# Altium integrated library Atmel Microcontroller 32-Bit ARM.IntLib: 116 symbols (part 9 of 10)
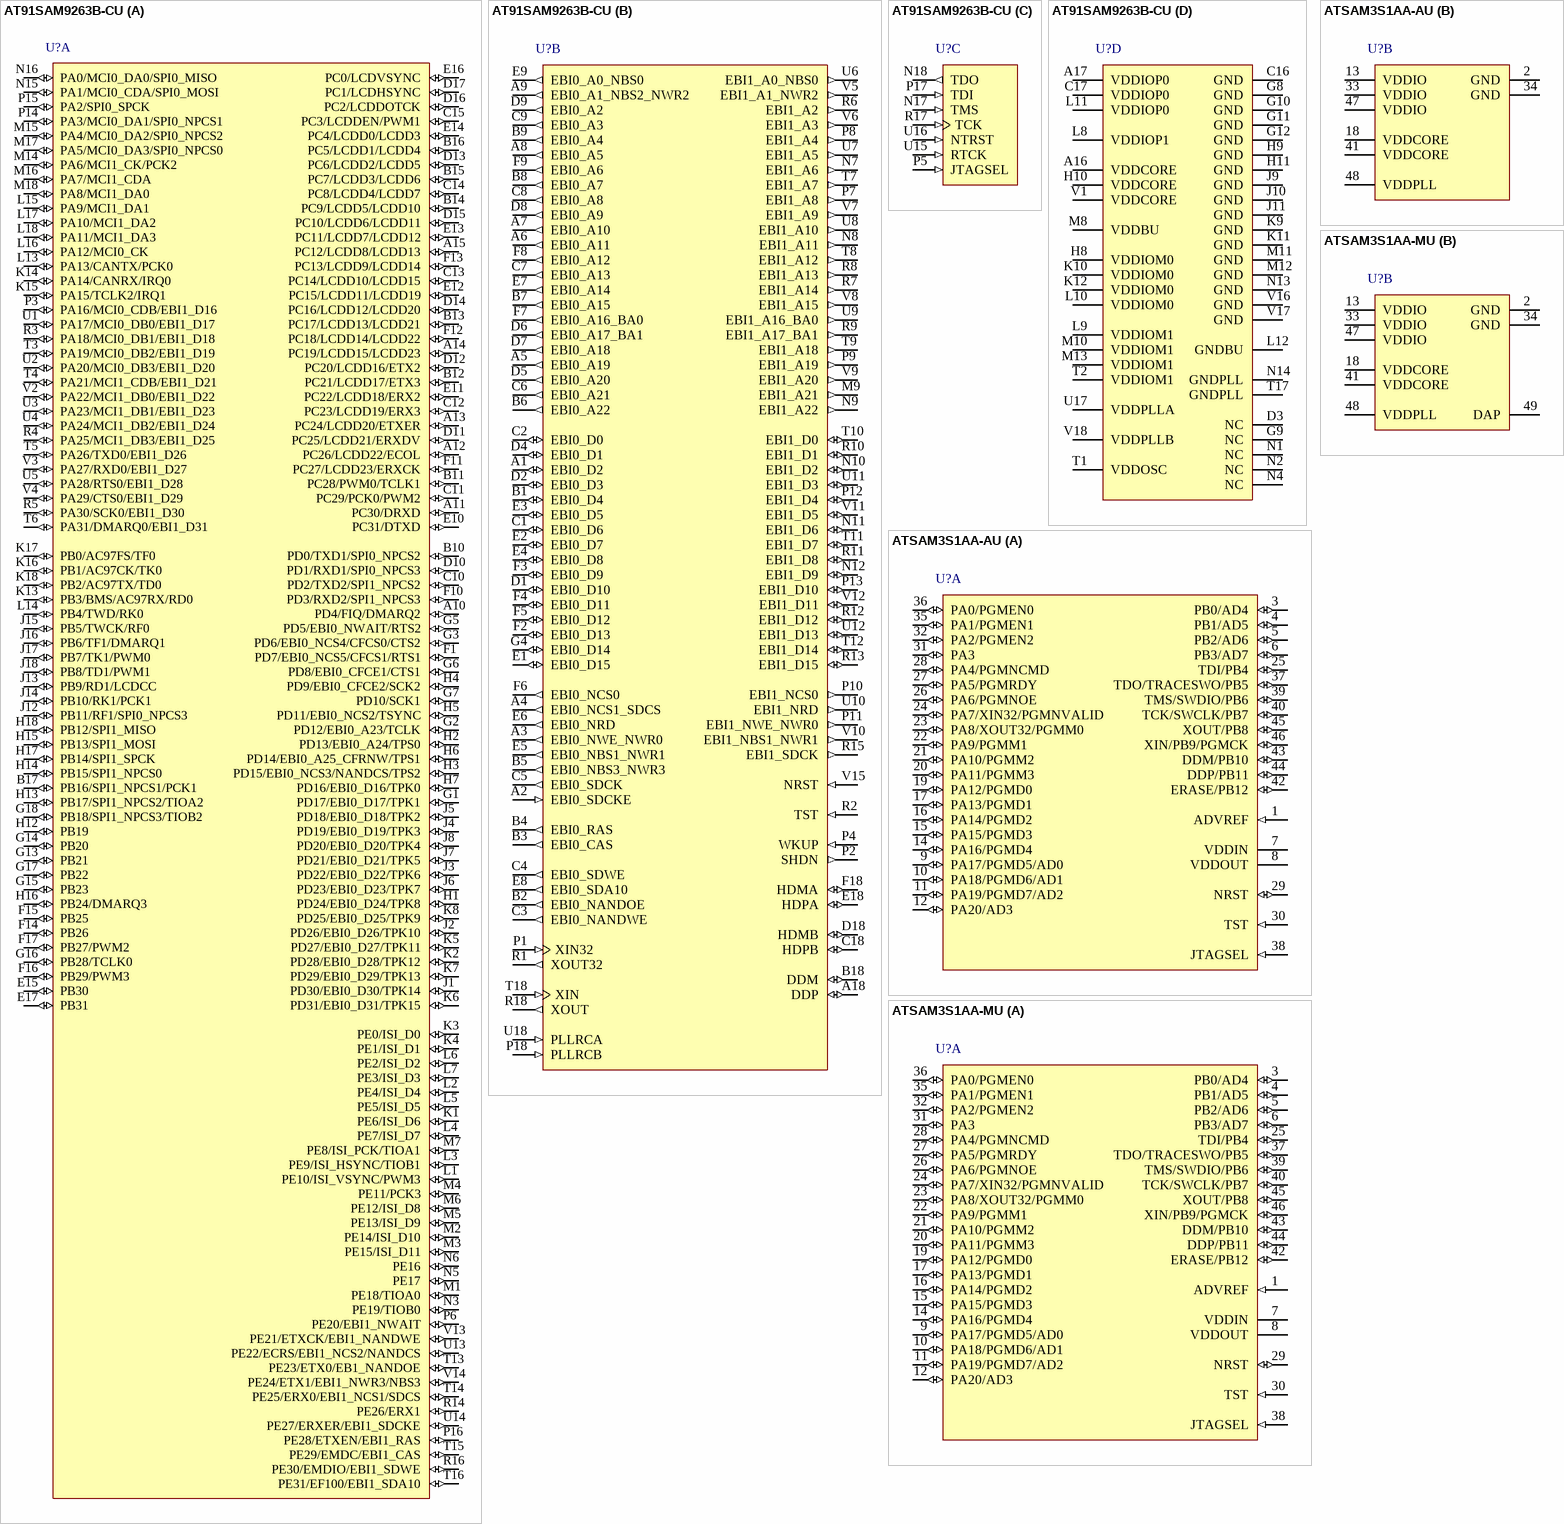
[diagram p60: symbols AT91SAM9263B-CU to ATSAM3S1AA-MU]

## AT91SAM9263B-CU
designator U?
AT91 ARM Thumb 32-bit Microcontroller, 96KB SRAM, 2EBI, FS USB, 20-ch. PDC, LCD Controller, 324-Pin TFBGA, Industrial Grade (-40°C to 85°C), Pb-Free; Published: 20-Sep-2010; DatasheetVersion: revH, Jul-2009; PackageVersion: 2009; PackageReference: TFBGA324; Publisher: Altium Limited; PackageDescription: 324-Ball Low Profile Fine-Pitch BGA, 15 x 15 mm Body, 0.8 mm Pitch; Supplier 1: Digi-Key; Supplier Part Number 1: AT91SAM9263B-CU-ND; Supplier 2: Farnell; Supplier Part Number 2: 1715468; Supplier 3: Mouser; Supplier Part Number 3: 556-AT91SAM9263B-CU; Code_JEDEC: MO-210; ComponentLink1Description: Manufacturer Link; ComponentLink1URL: http://www.atmel.com/products/AT91/default.asp?; ComponentLink2Description: AT91SAM9263 Datasheet; ComponentLink2URL: http://www.atmel.com/dyn/resources/prod_documents/doc6249.pdf; ComponentLink3Description: AT91SAM9263 Summary; ComponentLink3URL: http://www.atmel.com/dyn/resources/prod_documents/6249s.pdf; ComponentLink4Description: ARM926EJ-S Reference Manual; ComponentLink4URL: http://www.atmel.com/dyn/resources/prod_documents/ARM_926EJS_TRM.pdf; ComponentLink5Description: Atmel.com Home; ComponentLink5URL: http://www.atmel.com
footprint TFBGA324 (BGA, 324-Leads, Body 15x15mm, Pitch 0.8mm)
part A pins: A10 PD4/FIQ/DMARQ2 (io), A11 PC30/DRXD (io), A12 PC26/LCDD22/ECOL (io), A13 PC24/LCDD20/ETXER (io), A14 PC19/LCDD15/LCDD23 (io), A15 PC12/LCDD8/LCDD13 (io), B10 PD0/TXD1/SPI0_NPCS2 (io), B11 PC28/PWM0/TCLK1 (io), B12 PC21/LCDD17/ETX3 (io), B13 PC17/LCDD13/LCDD21 (io), B14 PC9/LCDD5/LCDD10 (io), B15 PC7/LCDD3/LCDD6 (io), B16 PC5/LCDD1/LCDD4 (io), B17 PB16/SPI1_NPCS1/PCK1 (io), C10 PD2/TXD2/SPI1_NPCS2 (io), C11 PC29/PCK0/PWM2 (io), C12 PC23/LCDD19/ERX3 (io), C13 PC14/LCDD10/LCDD15 (io), C14 PC8/LCDD4/LCDD7 (io), C15 PC3/LCDDEN/PWM1 (io), D10 PD1/RXD1/SPI0_NPCS3 (io), D11 PC25/LCDD21/ERXDV (io), D12 PC20/LCDD16/ETX2 (io), D13 PC6/LCDD2/LCDD5 (io), D14 PC16/LCDD12/LCDD20 (io), D15 PC10/LCDD6/LCDD11 (io), D16 PC2/LCDDOTCK (io), D17 PC1/LCDHSYNC (io), E10 PC31/DTXD (io), E11 PC22/LCDD18/ERX2 (io), E12 PC15/LCDD11/LCDD19 (io), E13 PC11/LCDD7/LCDD12 (io), E14 PC4/LCDD0/LCDD3 (io), E15 PB30 (io), E16 PC0/LCDVSYNC (io), E17 PB31 (io), F1 PD7/EBI0_NCS5/CFCS1/RTS1 (io), F10 PD3/RXD2/SPI1_NPCS3 (io), F11 PC27/LCDD23/ERXCK (io), F12 PC18/LCDD14/LCDD22 (io), F13 PC13/LCDD9/LCDD14 (io), F14 PB26 (io), F15 PB25 (io), F16 PB29/PWM3 (io), F17 PB27/PWM2 (io), G1 PD17/EBI0_D17/TPK1 (io), G2 PD12/EBI0_A23/TCLK (io), G3 PD6/EBI0_NCS4/CFCS0/CTS2 (io), G5 PD5/EBI0_NWAIT/RTS2 (io), G6 PD8/EBI0_CFCE1/CTS1 (io), G7 PD10/SCK1 (io), G13 PB21 (io), G14 PB20 (io), G15 PB23 (io), G16 PB28/TCLK0 (io), G17 PB22 (io), G18 PB18/SPI1_NPCS3/TIOB2 (io), H1 PD24/EBI0_D24/TPK8 (io), H2 PD13/EBI0_A24/TPS0 (io), H3 PD15/EBI0_NCS3/NANDCS/TPS2 (io), H4 PD9/EBI0_CFCE2/SCK2 (io), H5 PD11/EBI0_NCS2/TSYNC (io), H6 PD14/EBI0_A25_CFRNW/TPS1 (io), H7 PD16/EBI0_D16/TPK0 (io), H12 PB19 (io), H13 PB17/SPI1_NPCS2/TIOA2 (io), H14 PB15/SPI1_NPCS0 (io), H15 PB13/SPI1_MOSI (io), H16 PB24/DMARQ3 (io), H17 PB14/SPI1_SPCK (io), H18 PB12/SPI1_MISO (io), J1 PD30/EBI0_D30/TPK14 (io), J2 PD26/EBI0_D26/TPK10 (io), J3 PD22/EBI0_D22/TPK6 (io), J4 PD19/EBI0_D19/TPK3 (io), J5 PD18/EBI0_D18/TPK2 (io), J6 PD23/EBI0_D23/TPK7 (io), J7 PD21/EBI0_D21/TPK5 (io), J8 PD20/EBI0_D20/TPK4 (io), J12 PB11/RF1/SPI0_NPCS3 (io), J13 PB9/RD1/LCDCC (io), J14 PB10/RK1/PCK1 (io), J15 PB5/TWCK/RF0 (io), J16 PB6/TF1/DMARQ1 (io), J17 PB7/TK1/PWM0 (io), J18 PB8/TD1/PWM1 (io), K1 PE6/ISI_D6 (io), K2 PD28/EBI0_D28/TPK12 (io), K3 PE0/ISI_D0 (io), K4 PE1/ISI_D1 (io), K5 PD27/EBI0_D27/TPK11 (io), K6 PD31/EBI0_D31/TPK15 (io), K7 PD29/EBI0_D29/TPK13 (io), K8 PD25/EBI0_D25/TPK9 (io), K13 PB3/BMS/AC97RX/RD0 (io), K14 PA14/CANRX/IRQ0 (io), K15 PA15/TCLK2/IRQ1 (io), K16 PB1/AC97CK/TK0 (io), K17 PB0/AC97FS/TF0 (io), K18 PB2/AC97TX/TD0 (io), L1 PE10/ISI_VSYNC/PWM3 (io), L2 PE4/ISI_D4 (io), L3 PE9/ISI_HSYNC/TIOB1 (io), L4 PE7/ISI_D7 (io), L5 PE5/ISI_D5 (io), L6 PE2/ISI_D2 (io), L7 PE3/ISI_D3 (io), L13 PA13/CANTX/PCK0 (io), L14 PB4/TWD/RK0 (io), L15 PA9/MCI1_DA1 (io), L16 PA12/MCI0_CK (io), L17 PA10/MCI1_DA2 (io), L18 PA11/MCI1_DA3 (io), M1 PE18/TIOA0 (io), M2 PE14/ISI_D10 (io), M3 PE15/ISI_D11 (io), M4 PE11/PCK3 (io), M5 PE13/ISI_D9 (io), M6 PE12/ISI_D8 (io), M7 PE8/ISI_PCK/TIOA1 (io), M14 PA6/MCI1_CK/PCK2 (io), M15 PA4/MCI0_DA2/SPI0_NPCS2 (io), M16 PA7/MCI1_CDA (io), M17 PA5/MCI0_DA3/SPI0_NPCS0 (io), M18 PA8/MCI1_DA0 (io), N3 PE19/TIOB0 (io), N5 PE17 (io), N6 PE16 (io), N15 PA1/MCI0_CDA/SPI0_MOSI (io), N16 PA0/MCI0_DA0/SPI0_MISO (io), P3 PA16/MCI0_CDB/EBI1_D16 (io), P6 PE20/EBI1_NWAIT (io), P14 PA3/MCI0_DA1/SPI0_NPCS1 (io), P15 PA2/SPI0_SPCK (io), P16 PE28/ETXEN/EBI1_RAS (io), R3 PA18/MCI0_DB1/EBI1_D18 (io), R4 PA25/MCI1_DB3/EBI1_D25 (io), R5 PA30/SCK0/EBI1_D30 (io), R14 PE26/ERX1 (io), R16 PE30/EMDIO/EBI1_SDWE (io), T3 PA19/MCI0_DB2/EBI1_D19 (io), T4 PA21/MCI1_CDB/EBI1_D21 (io), T5 PA26/TXD0/EBI1_D26 (io), T6 PA31/DMARQ0/EBI1_D31 (io), T13 PE23/ETX0/EB1_NANDOE (io), T14 PE25/ERX0/EBI1_NCS1/SDCS (io), T15 PE29/EMDC/EBI1_CAS (io), T16 PE31/EF100/EBI1_SDA10 (io), U1 PA17/MCI0_DB0/EBI1_D17 (io), U2 PA20/MCI0_DB3/EBI1_D20 (io), U3 PA23/MCI1_DB1/EBI1_D23 (io), U4 PA24/MCI1_DB2/EBI1_D24 (io), U5 PA28/RTS0/EBI1_D28 (io), U13 PE22/ECRS/EBI1_NCS2/NANDCS (io), U14 PE27/ERXER/EBI1_SDCKE (io), V2 PA22/MCI1_DB0/EBI1_D22 (io), V3 PA27/RXD0/EBI1_D27 (io), V4 PA29/CTS0/EBI1_D29 (io), V13 PE21/ETXCK/EBI1_NANDWE (io), V14 PE24/ETX1/EBI1_NWR3/NBS3 (io)
part B pins: A1 EBI0_D2 (io), A2 EBI0_SDCKE (in), A3 EBI0_NWE_NWR0 (out), A4 EBI0_NCS1_SDCS (out), A5 EBI0_A19 (out), A6 EBI0_A11 (out), A7 EBI0_A10 (out), A8 EBI0_A5 (out), A9 EBI0_A1_NBS2_NWR2 (out), A18 DDP (io), B1 EBI0_D4 (io), B2 EBI0_NANDOE (out), B3 EBI0_CAS (out), B4 EBI0_RAS (out), B5 EBI0_NBS3_NWR3 (out), B6 EBI0_A22 (out), B7 EBI0_A15 (out), B8 EBI0_A7 (out), B9 EBI0_A4 (out), B18 DDM (io), C1 EBI0_D6 (io), C2 EBI0_D0 (io), C3 EBI0_NANDWE (out), C4 EBI0_SDWE (out), C5 EBI0_SDCK (out), C6 EBI0_A21 (out), C7 EBI0_A13 (out), C8 EBI0_A8 (out), C9 EBI0_A3 (out), C18 HDPB (io), D1 EBI0_D10 (io), D2 EBI0_D3 (io), D4 EBI0_D1 (io), D5 EBI0_A20 (out), D6 EBI0_A17_BA1 (out), D7 EBI0_A18 (out), D8 EBI0_A9 (out), D9 EBI0_A2 (out), D18 HDMB (io), E1 EBI0_D15 (io), E2 EBI0_D7 (io), E3 EBI0_D5 (io), E4 EBI0_D8 (io), E5 EBI0_NBS1_NWR1 (out), E6 EBI0_NRD (out), E7 EBI0_A14 (out), E8 EBI0_SDA10 (out), E9 EBI0_A0_NBS0 (out), E18 HDPA (io), F2 EBI0_D13 (io), F3 EBI0_D9 (io), F4 EBI0_D11 (io), F5 EBI0_D12 (io), F6 EBI0_NCS0 (out), F7 EBI0_A16_BA0 (out), F8 EBI0_A12 (out), F9 EBI0_A6 (out), F18 HDMA (io), G4 EBI0_D14 (io), M9 EBI1_A21 (out), N7 EBI1_A6 (out), N8 EBI1_A11 (out), N9 EBI1_A22 (out), N10 EBI1_D2 (io), N11 EBI1_D6 (io), N12 EBI1_D9 (io), P1 XIN32 (in), P2 SHDN (out), P4 WKUP (in), P7 EBI1_A8 (out), P8 EBI1_A4 (out), P9 EBI1_A19 (out), P10 EBI1_NCS0 (out), P11 EBI1_NWE_NWR0 (out), P12 EBI1_D4 (io), P13 EBI1_D10 (io), P18 PLLRCB (in), R1 XOUT32 (out), R2 TST (in), R6 EBI1_A2 (out), R7 EBI1_A14 (out), R8 EBI1_A13 (out), R9 EBI1_A17_BA1 (out), R10 EBI1_D1 (io), R11 EBI1_D8 (io), R12 EBI1_D12 (io), R13 EBI1_D15 (io), R15 EBI1_SDCK (out), R18 XOUT (out), T7 EBI1_A7 (out), T8 EBI1_A12 (out), T9 EBI1_A18 (out), T10 EBI1_D0 (io), T11 EBI1_D7 (io), T12 EBI1_D14 (io), T18 XIN (in), U6 EBI1_A0_NBS0 (out), U7 EBI1_A5 (out), U8 EBI1_A10 (out), U9 EBI1_A16_BA0 (out), U10 EBI1_NRD (out), U11 EBI1_D3 (io), U12 EBI1_D13 (io), U18 PLLRCA (in), V5 EBI1_A1_NWR2 (out), V6 EBI1_A3 (out), V7 EBI1_A9 (out), V8 EBI1_A15 (out), V9 EBI1_A20 (out), V10 EBI1_NBS1_NWR1 (out), V11 EBI1_D5 (io), V12 EBI1_D11 (io), V15 NRST (in)
part C pins: N17 TMS (in), N18 TDO (out), P5 JTAGSEL (in), P17 TDI (in), R17 TCK (in), U15 RTCK (in), U16 NTRST (in)
part D pins: A16 VDDCORE (power), A17 VDDIOP0 (power), C16 GND (power), C17 VDDIOP0 (power), D3 NC, G8 GND (power), G9 NC, G10 GND (power), G11 GND (power), G12 GND (power), H8 VDDIOM0 (power), H9 GND (power), H10 VDDCORE (power), H11 GND (power), J9 GND (power), J10 GND (power), J11 GND (power), K9 GND (power), K10 VDDIOM0 (power), K11 GND (power), K12 VDDIOM0 (power), L8 VDDIOP1 (power), L9 VDDIOM1 (power), L10 VDDIOM0 (power), L11 VDDIOP0 (power), L12 GNDBU (power), M8 VDDBU (power), M10 VDDIOM1 (power), M11 GND (power), M12 GND (power), M13 VDDIOM1 (power), N1 NC, N2 NC, N4 NC, N13 GND (power), N14 GNDPLL (power), T1 VDDOSC (power), T2 VDDIOM1 (power), T17 GNDPLL (power), U17 VDDPLLA (power), V1 VDDCORE (power), V16 GND (power), V17 GND (power), V18 VDDPLLB (power)

## ATSAM3S1AA-AU
designator U?
AT91 ARM Cortex-M3 32-bit Microcontroller, 64KB Flash, 16KB ROM, 8-ch. ADC, 34 User I/Os, 48-Pin LQFP, Industrial Grade (-40°C to 85°C), Pb-Free; Published: 20-Sep-2010; DatasheetVersion: revA, Dec-2009; PackageVersion: revC, Oct-2001; PackageReference: 48AA; Publisher: Altium Limited; PackageDescription: 48-Pin Plastic Low Profile Quad Flat Pack (LQFP), 7 x 7 x 1.4 mm Body, 0.5 mm Pitch; Supplier 1: Digi-Key; Supplier Part Number 1: ATSAM3S1AA-AU-ND; Supplier 2: Mouser; Supplier Part Number 2: 556-ATSAM3S1AA-AU; Code_JEDEC: MS-026-BBC; ComponentLink1Description: Manufacturer Link; ComponentLink1URL: http://www.atmel.com/products/AT91/default.asp?; ComponentLink2Description: SAM3S Series Datasheet; ComponentLink2URL: http://www.atmel.com/dyn/resources/prod_documents/doc6500.pdf; ComponentLink3Description: SAM3S Series Summary; ComponentLink3URL: http://www.atmel.com/dyn/resources/prod_documents/6500s.pdf; ComponentLink4Description: Atmel.com Home; ComponentLink4URL: http://www.atmel.com
footprint 48AA_N (Thin QFP, 48-Leads, Body 7x7mm, Pitch 0.5mm, IPC Medium Density)
footprint 48AA_L (Thin QFP, 48-Leads, Body 7x7mm, Pitch 0.5mm, IPC High Density)
footprint 48AA_M (Thin QFP, 48-Leads, Body 7x7mm, Pitch 0.5mm, IPC Low Density)
part A pins: 1 ADVREF (in), 3 PB0/AD4 (io), 4 PB1/AD5 (io), 5 PB2/AD6 (io), 6 PB3/AD7 (io), 7 VDDIN (power), 8 VDDOUT (power), 9 PA17/PGMD5/AD0 (io), 10 PA18/PGMD6/AD1 (io), 11 PA19/PGMD7/AD2 (io), 12 PA20/AD3 (io), 14 PA16/PGMD4 (io), 15 PA15/PGMD3 (io), 16 PA14/PGMD2 (io), 17 PA13/PGMD1 (io), 19 PA12/PGMD0 (io), 20 PA11/PGMM3 (io), 21 PA10/PGMM2 (io), 22 PA9/PGMM1 (io), 23 PA8/XOUT32/PGMM0 (io), 24 PA7/XIN32/PGMNVALID (io), 25 TDI/PB4 (io), 26 PA6/PGMNOE (io), 27 PA5/PGMRDY (io), 28 PA4/PGMNCMD (io), 29 NRST (io), 30 TST (in), 31 PA3 (io), 32 PA2/PGMEN2 (io), 35 PA1/PGMEN1 (io), 36 PA0/PGMEN0 (io), 37 TDO/TRACESWO/PB5 (io), 38 JTAGSEL (in), 39 TMS/SWDIO/PB6 (io), 40 TCK/SWCLK/PB7 (io), 42 ERASE/PB12 (io), 43 DDM/PB10 (io), 44 DDP/PB11 (io), 45 XOUT/PB8 (io), 46 XIN/PB9/PGMCK (io)
part B pins: 2 GND (power), 13 VDDIO (power), 18 VDDCORE (power), 33 VDDIO (power), 34 GND (power), 41 VDDCORE (power), 47 VDDIO (power), 48 VDDPLL (power)

## ATSAM3S1AA-MU
designator U?
AT91 ARM Cortex-M3 32-bit Microcontroller, 64KB Flash, 16KB ROM, 8-ch. ADC, 34 User I/Os, 48-Pin QFN, Industrial Grade (-40°C to 85°C), Pb-Free; Published: 20-Sep-2010; DatasheetVersion: revA, Dec-2009; PackageVersion: Apr-2006; PackageReference: QFN48; Publisher: Altium Limited; PackageDescription: 48-Pin Quad Flat No-Lead 0.5 mm Pitch; Supplier 1: Digi-Key; Supplier Part Number 1: ATSAM3S1AA-MU-ND; Supplier 2: Mouser; Supplier Part Number 2: 556-ATSAM3S1AA-MU; ComponentLink1Description: Manufacturer Link; ComponentLink1URL: http://www.atmel.com/products/AT91/default.asp?; ComponentLink2Description: SAM3S Series Datasheet; ComponentLink2URL: http://www.atmel.com/dyn/resources/prod_documents/doc6500.pdf; ComponentLink3Description: SAM3S Series Summary; ComponentLink3URL: http://www.atmel.com/dyn/resources/prod_documents/6500s.pdf; ComponentLink4Description: Atmel.com Home; ComponentLink4URL: http://www.atmel.com
footprint QFN48_N (QFN, 48-Leads, Body 7x7mm, Pitch 0.5mm, IPC Medium Density)
footprint QFN48_L (QFN, 48-Leads, Body 7x7mm, Pitch 0.5mm, IPC High Density)
footprint QFN48_M (QFN, 48-Leads, Body 7x7mm, Pitch 0.5mm, IPC Low Density)
part A pins: 1 ADVREF (in), 3 PB0/AD4 (io), 4 PB1/AD5 (io), 5 PB2/AD6 (io), 6 PB3/AD7 (io), 7 VDDIN (power), 8 VDDOUT (power), 9 PA17/PGMD5/AD0 (io), 10 PA18/PGMD6/AD1 (io), 11 PA19/PGMD7/AD2 (io), 12 PA20/AD3 (io), 14 PA16/PGMD4 (io), 15 PA15/PGMD3 (io), 16 PA14/PGMD2 (io), 17 PA13/PGMD1 (io), 19 PA12/PGMD0 (io), 20 PA11/PGMM3 (io), 21 PA10/PGMM2 (io), 22 PA9/PGMM1 (io), 23 PA8/XOUT32/PGMM0 (io), 24 PA7/XIN32/PGMNVALID (io), 25 TDI/PB4 (io), 26 PA6/PGMNOE (io), 27 PA5/PGMRDY (io), 28 PA4/PGMNCMD (io), 29 NRST (io), 30 TST (in), 31 PA3 (io), 32 PA2/PGMEN2 (io), 35 PA1/PGMEN1 (io), 36 PA0/PGMEN0 (io), 37 TDO/TRACESWO/PB5 (io), 38 JTAGSEL (in), 39 TMS/SWDIO/PB6 (io), 40 TCK/SWCLK/PB7 (io), 42 ERASE/PB12 (io), 43 DDM/PB10 (io), 44 DDP/PB11 (io), 45 XOUT/PB8 (io), 46 XIN/PB9/PGMCK (io)
part B pins: 2 GND (power), 13 VDDIO (power), 18 VDDCORE (power), 33 VDDIO (power), 34 GND (power), 41 VDDCORE (power), 47 VDDIO (power), 48 VDDPLL (power), 49 DAP (power)

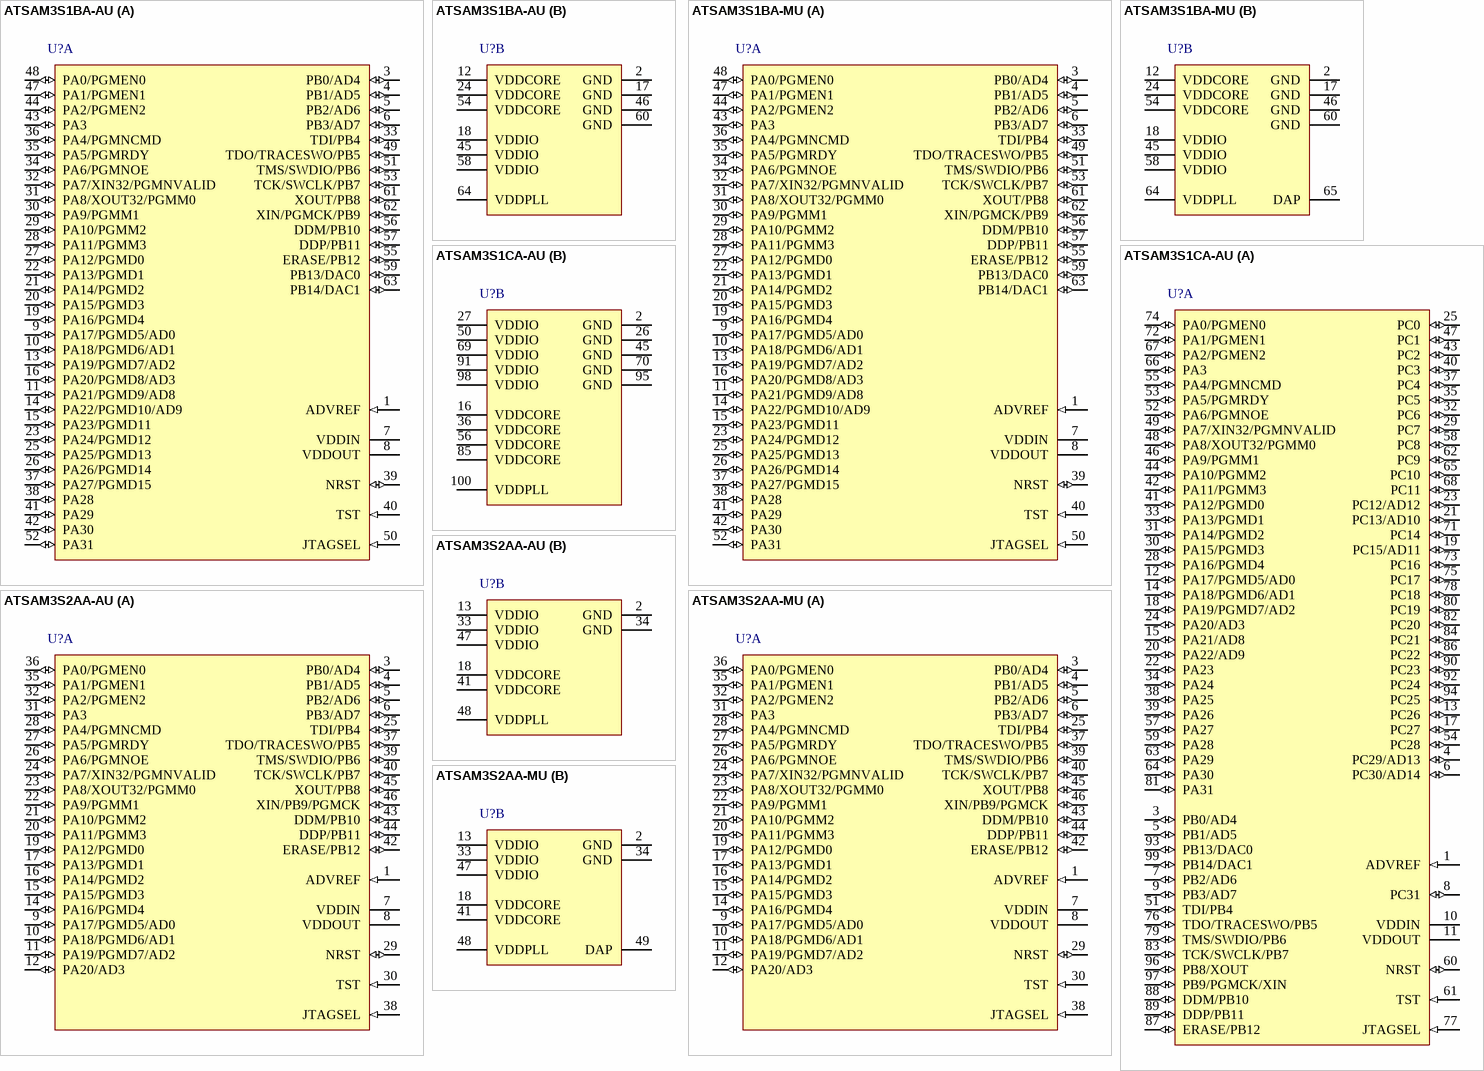
[diagram p47: symbols ATSAM3S1BA-AU to ATSAM3S2AA-MU]

## ATSAM3S1BA-AU
designator U?
AT91 ARM Cortex-M3 32-bit Microcontroller, 64KB Flash, 16KB ROM, 10-ch. ADC, 47 User I/Os, 64-Pin LQFP, Industrial Grade (-40°C to 85°C), Pb-Free; Published: 20-Sep-2010; DatasheetVersion: revA, Dec-2009; PackageVersion: Apr-2006; PackageReference: LQFP64; Publisher: Altium Limited; PackageDescription: 64-Pin Thin Quad Flat Pack 0.5 mm Pitch; Supplier 1: Digi-Key; Supplier Part Number 1: ATSAM3S1BA-AU-ND; Supplier 2: Mouser; Supplier Part Number 2: 556-ATSAM3S1BA-AU; Code_JEDEC: MS-026-BCD; ComponentLink1Description: Manufacturer Link; ComponentLink1URL: http://www.atmel.com/products/AT91/default.asp?; ComponentLink2Description: SAM3S Series Datasheet; ComponentLink2URL: http://www.atmel.com/dyn/resources/prod_documents/doc6500.pdf; ComponentLink3Description: SAM3S Series Summary; ComponentLink3URL: http://www.atmel.com/dyn/resources/prod_documents/6500s.pdf; ComponentLink4Description: Atmel.com Home; ComponentLink4URL: http://www.atmel.com
footprint LQFP64_N (Thin QFP, 64-Leads, Body 10x10mm, Pitch 0.5mm, IPC Medium Density)
footprint LQFP64_L (Thin QFP, 64-Leads, Body 10x10mm, Pitch 0.5mm, IPC High Density)
footprint LQFP64_M (Thin QFP, 64-Leads, Body 10x10mm, Pitch 0.5mm, IPC Low Density)
part A pins: 1 ADVREF (in), 3 PB0/AD4 (io), 4 PB1/AD5 (io), 5 PB2/AD6 (io), 6 PB3/AD7 (io), 7 VDDIN (power), 8 VDDOUT (power), 9 PA17/PGMD5/AD0 (io), 10 PA18/PGMD6/AD1 (io), 11 PA21/PGMD9/AD8 (io), 13 PA19/PGMD7/AD2 (io), 14 PA22/PGMD10/AD9 (io), 15 PA23/PGMD11 (io), 16 PA20/PGMD8/AD3 (io), 19 PA16/PGMD4 (io), 20 PA15/PGMD3 (io), 21 PA14/PGMD2 (io), 22 PA13/PGMD1 (io), 23 PA24/PGMD12 (io), 25 PA25/PGMD13 (io), 26 PA26/PGMD14 (io), 27 PA12/PGMD0 (io), 28 PA11/PGMM3 (io), 29 PA10/PGMM2 (io), 30 PA9/PGMM1 (io), 31 PA8/XOUT32/PGMM0 (io), 32 PA7/XIN32/PGMNVALID (io), 33 TDI/PB4 (io), 34 PA6/PGMNOE (io), 35 PA5/PGMRDY (io), 36 PA4/PGMNCMD (io), 37 PA27/PGMD15 (io), 38 PA28 (io), 39 NRST (io), 40 TST (in), 41 PA29 (io), 42 PA30 (io), 43 PA3 (io), 44 PA2/PGMEN2 (io), 47 PA1/PGMEN1 (io), 48 PA0/PGMEN0 (io), 49 TDO/TRACESWO/PB5 (io), 50 JTAGSEL (in), 51 TMS/SWDIO/PB6 (io), 52 PA31 (io), 53 TCK/SWCLK/PB7 (io), 55 ERASE/PB12 (io), 56 DDM/PB10 (io), 57 DDP/PB11 (io), 59 PB13/DAC0 (io), 61 XOUT/PB8 (io), 62 XIN/PGMCK/PB9 (io), 63 PB14/DAC1 (io)
part B pins: 2 GND (power), 12 VDDCORE (power), 17 GND (power), 18 VDDIO (power), 24 VDDCORE (power), 45 VDDIO (power), 46 GND (power), 54 VDDCORE (power), 58 VDDIO (power), 60 GND (power), 64 VDDPLL (power)

## ATSAM3S1BA-MU
designator U?
AT91 ARM Cortex-M3 32-bit Microcontroller, 64KB Flash, 16KB ROM, 10-ch. ADC, 47 User I/Os, 64-Pin QFN, Industrial Grade (-40°C to 85°C), Pb-Free; Published: 20-Sep-2010; DatasheetVersion: revA, Dec-2009; PackageVersion: Apr-2006; PackageReference: QFN64; Publisher: Altium Limited; PackageDescription: 64-Pin Quad Flat No-Lead 0.5 mm Pitch; Supplier 1: Digi-Key; Supplier Part Number 1: ATSAM3S1BA-MU-ND; Supplier 2: Mouser; Supplier Part Number 2: 556-ATSAM3S1BA-MU; Code_JEDEC: MO-220; ComponentLink1Description: Manufacturer Link; ComponentLink1URL: http://www.atmel.com/products/AT91/default.asp?; ComponentLink2Description: SAM3S Series Datasheet; ComponentLink2URL: http://www.atmel.com/dyn/resources/prod_documents/doc6500.pdf; ComponentLink3Description: SAM3S Series Summary; ComponentLink3URL: http://www.atmel.com/dyn/resources/prod_documents/6500s.pdf; ComponentLink4Description: Atmel.com Home; ComponentLink4URL: http://www.atmel.com
footprint QFN64_N (QFN, 64-Leads, Body 9x9mm, Pitch 0.5mm, IPC Medium Density)
footprint QFN64_L (QFN, 64-Leads, Body 9x9mm, Pitch 0.5mm, IPC High Density)
footprint QFN64_M (QFN, 64-Leads, Body 9x9mm, Pitch 0.5mm, IPC Low Density)
part A pins: 1 ADVREF (in), 3 PB0/AD4 (io), 4 PB1/AD5 (io), 5 PB2/AD6 (io), 6 PB3/AD7 (io), 7 VDDIN (power), 8 VDDOUT (power), 9 PA17/PGMD5/AD0 (io), 10 PA18/PGMD6/AD1 (io), 11 PA21/PGMD9/AD8 (io), 13 PA19/PGMD7/AD2 (io), 14 PA22/PGMD10/AD9 (io), 15 PA23/PGMD11 (io), 16 PA20/PGMD8/AD3 (io), 19 PA16/PGMD4 (io), 20 PA15/PGMD3 (io), 21 PA14/PGMD2 (io), 22 PA13/PGMD1 (io), 23 PA24/PGMD12 (io), 25 PA25/PGMD13 (io), 26 PA26/PGMD14 (io), 27 PA12/PGMD0 (io), 28 PA11/PGMM3 (io), 29 PA10/PGMM2 (io), 30 PA9/PGMM1 (io), 31 PA8/XOUT32/PGMM0 (io), 32 PA7/XIN32/PGMNVALID (io), 33 TDI/PB4 (io), 34 PA6/PGMNOE (io), 35 PA5/PGMRDY (io), 36 PA4/PGMNCMD (io), 37 PA27/PGMD15 (io), 38 PA28 (io), 39 NRST (io), 40 TST (in), 41 PA29 (io), 42 PA30 (io), 43 PA3 (io), 44 PA2/PGMEN2 (io), 47 PA1/PGMEN1 (io), 48 PA0/PGMEN0 (io), 49 TDO/TRACESWO/PB5 (io), 50 JTAGSEL (in), 51 TMS/SWDIO/PB6 (io), 52 PA31 (io), 53 TCK/SWCLK/PB7 (io), 55 ERASE/PB12 (io), 56 DDM/PB10 (io), 57 DDP/PB11 (io), 59 PB13/DAC0 (io), 61 XOUT/PB8 (io), 62 XIN/PGMCK/PB9 (io), 63 PB14/DAC1 (io)
part B pins: 2 GND (power), 12 VDDCORE (power), 17 GND (power), 18 VDDIO (power), 24 VDDCORE (power), 45 VDDIO (power), 46 GND (power), 54 VDDCORE (power), 58 VDDIO (power), 60 GND (power), 64 VDDPLL (power), 65 DAP (power)

## ATSAM3S1CA-AU
designator U?
AT91 ARM Cortex-M3 32-bit Microcontroller, 64KB Flash, 16KB ROM, EBI, 16-ch. ADC, 79 User I/Os, 100-Pin LQFP, Industrial Grade (-40°C to 85°C), Pb-Free; Published: 20-Sep-2010; DatasheetVersion: revA, Dec-2009; PackageVersion: Apr-2006; PackageReference: LQFP100; Publisher: Altium Limited; PackageDescription: 100-Pin Thin Quad Flat Pack 0.5 mm Pitch; Supplier 1: Digi-Key; Supplier Part Number 1: ATSAM3S1CA-AU-ND; Supplier 2: Mouser; Supplier Part Number 2: 556-ATSAM3S1CA-AU; Code_JEDEC: MS-026-BED; ComponentLink1Description: Manufacturer Link; ComponentLink1URL: http://www.atmel.com/products/AT91/default.asp?; ComponentLink2Description: SAM3S Series Datasheet; ComponentLink2URL: http://www.atmel.com/dyn/resources/prod_documents/doc6500.pdf; ComponentLink3Description: SAM3S Series Summary; ComponentLink3URL: http://www.atmel.com/dyn/resources/prod_documents/6500s.pdf; ComponentLink4Description: Atmel.com Home; ComponentLink4URL: http://www.atmel.com
footprint LQFP100_N (Thin QFP, 100-Leads, Body 14x14mm, Pitch 0.5mm, IPC Medium Density)
footprint LQFP100_L (Thin QFP, 100-Leads, Body 14x14mm, Pitch 0.5mm, IPC High Density)
footprint LQFP100_M (Thin QFP, 100-Leads, Body 14x14mm, Pitch 0.5mm, IPC Low Density)
part A pins: 1 ADVREF (in), 3 PB0/AD4 (io), 4 PC29/AD13 (io), 5 PB1/AD5 (io), 6 PC30/AD14 (io), 7 PB2/AD6 (io), 8 PC31 (io), 9 PB3/AD7 (io), 10 VDDIN (power), 11 VDDOUT (power), 12 PA17/PGMD5/AD0 (io), 13 PC26 (io), 14 PA18/PGMD6/AD1 (io), 15 PA21/AD8 (io), 17 PC27 (io), 18 PA19/PGMD7/AD2 (io), 19 PC15/AD11 (io), 20 PA22/AD9 (io), 21 PC13/AD10 (io), 22 PA23 (io), 23 PC12/AD12 (io), 24 PA20/AD3 (io), 25 PC0 (io), 28 PA16/PGMD4 (io), 29 PC7 (io), 30 PA15/PGMD3 (io), 31 PA14/PGMD2 (io), 32 PC6 (io), 33 PA13/PGMD1 (io), 34 PA24 (io), 35 PC5 (io), 37 PC4 (io), 38 PA25 (io), 39 PA26 (io), 40 PC3 (io), 41 PA12/PGMD0 (io), 42 PA11/PGMM3 (io), 43 PC2 (io), 44 PA10/PGMM2 (io), 46 PA9/PGMM1 (io), 47 PC1 (io), 48 PA8/XOUT32/PGMM0 (io), 49 PA7/XIN32/PGMNVALID (io), 51 TDI/PB4 (io), 52 PA6/PGMNOE (io), 53 PA5/PGMRDY (io), 54 PC28 (io), 55 PA4/PGMNCMD (io), 57 PA27 (io), 58 PC8 (io), 59 PA28 (io), 60 NRST (io), 61 TST (in), 62 PC9 (io), 63 PA29 (io), 64 PA30 (io), 65 PC10 (io), 66 PA3 (io), 67 PA2/PGMEN2 (io), 68 PC11 (io), 71 PC14 (io), 72 PA1/PGMEN1 (io), 73 PC16 (io), 74 PA0/PGMEN0 (io), 75 PC17 (io), 76 TDO/TRACESWO/PB5 (io), 77 JTAGSEL (in), 78 PC18 (io), 79 TMS/SWDIO/PB6 (io), 80 PC19 (io), 81 PA31 (io), 82 PC20 (io), 83 TCK/SWCLK/PB7 (io), 84 PC21 (io), 86 PC22 (io), 87 ERASE/PB12 (io), 88 DDM/PB10 (io), 89 DDP/PB11 (io), 90 PC23 (io), 92 PC24 (io), 93 PB13/DAC0 (io), 94 PC25 (io), 96 PB8/XOUT (io), 97 PB9/PGMCK/XIN (io), 99 PB14/DAC1 (io)
part B pins: 2 GND (power), 16 VDDCORE (power), 26 GND (power), 27 VDDIO (power), 36 VDDCORE (power), 45 GND (power), 50 VDDIO (power), 56 VDDCORE (power), 69 VDDIO (power), 70 GND (power), 85 VDDCORE (power), 91 VDDIO (power), 95 GND (power), 98 VDDIO (power), 100 VDDPLL (power)

## ATSAM3S2AA-AU
designator U?
AT91 ARM Cortex-M3 32-bit Microcontroller, 128KB Flash, 32KB ROM, 8-ch. ADC, 34 User I/Os, 48-Pin LQFP, Industrial Grade (-40°C to 85°C), Pb-Free; Published: 20-Sep-2010; DatasheetVersion: revA, Dec-2009; PackageVersion: revC, Oct-2001; PackageReference: 48AA; Publisher: Altium Limited; PackageDescription: 48-Pin Plastic Low Profile Quad Flat Pack (LQFP), 7 x 7 x 1.4 mm Body, 0.5 mm Pitch; Supplier 1: Digi-Key; Supplier Part Number 1: ATSAM3S2AA-AU-ND; Supplier 2: Mouser; Supplier Part Number 2: 556-ATSAM3S2AA-AU; Code_JEDEC: MS-026-BBC; ComponentLink1Description: Manufacturer Link; ComponentLink1URL: http://www.atmel.com/products/AT91/default.asp?; ComponentLink2Description: SAM3S Series Datasheet; ComponentLink2URL: http://www.atmel.com/dyn/resources/prod_documents/doc6500.pdf; ComponentLink3Description: SAM3S Series Summary; ComponentLink3URL: http://www.atmel.com/dyn/resources/prod_documents/6500s.pdf; ComponentLink4Description: Atmel.com Home; ComponentLink4URL: http://www.atmel.com
footprint 48AA_N (Thin QFP, 48-Leads, Body 7x7mm, Pitch 0.5mm, IPC Medium Density)
footprint 48AA_L (Thin QFP, 48-Leads, Body 7x7mm, Pitch 0.5mm, IPC High Density)
footprint 48AA_M (Thin QFP, 48-Leads, Body 7x7mm, Pitch 0.5mm, IPC Low Density)
part A pins: 1 ADVREF (in), 3 PB0/AD4 (io), 4 PB1/AD5 (io), 5 PB2/AD6 (io), 6 PB3/AD7 (io), 7 VDDIN (power), 8 VDDOUT (power), 9 PA17/PGMD5/AD0 (io), 10 PA18/PGMD6/AD1 (io), 11 PA19/PGMD7/AD2 (io), 12 PA20/AD3 (io), 14 PA16/PGMD4 (io), 15 PA15/PGMD3 (io), 16 PA14/PGMD2 (io), 17 PA13/PGMD1 (io), 19 PA12/PGMD0 (io), 20 PA11/PGMM3 (io), 21 PA10/PGMM2 (io), 22 PA9/PGMM1 (io), 23 PA8/XOUT32/PGMM0 (io), 24 PA7/XIN32/PGMNVALID (io), 25 TDI/PB4 (io), 26 PA6/PGMNOE (io), 27 PA5/PGMRDY (io), 28 PA4/PGMNCMD (io), 29 NRST (io), 30 TST (in), 31 PA3 (io), 32 PA2/PGMEN2 (io), 35 PA1/PGMEN1 (io), 36 PA0/PGMEN0 (io), 37 TDO/TRACESWO/PB5 (io), 38 JTAGSEL (in), 39 TMS/SWDIO/PB6 (io), 40 TCK/SWCLK/PB7 (io), 42 ERASE/PB12 (io), 43 DDM/PB10 (io), 44 DDP/PB11 (io), 45 XOUT/PB8 (io), 46 XIN/PB9/PGMCK (io)
part B pins: 2 GND (power), 13 VDDIO (power), 18 VDDCORE (power), 33 VDDIO (power), 34 GND (power), 41 VDDCORE (power), 47 VDDIO (power), 48 VDDPLL (power)

## ATSAM3S2AA-MU
designator U?
AT91 ARM Cortex-M3 32-bit Microcontroller, 128KB Flash, 32KB ROM, 8-ch. ADC, 34 User I/Os, 48-Pin QFN, Industrial Grade (-40°C to 85°C), Pb-Free; Published: 20-Sep-2010; DatasheetVersion: revA, Dec-2009; PackageVersion: Apr-2006; PackageReference: QFN48; Publisher: Altium Limited; PackageDescription: 48-Pin Quad Flat No-Lead 0.5 mm Pitch; Supplier 1: Digi-Key; Supplier Part Number 1: ATSAM3S2AA-MU-ND; Supplier 2: Mouser; Supplier Part Number 2: 556-ATSAM3S2AA-MU; ComponentLink1Description: Manufacturer Link; ComponentLink1URL: http://www.atmel.com/products/AT91/default.asp?; ComponentLink2Description: SAM3S Series Datasheet; ComponentLink2URL: http://www.atmel.com/dyn/resources/prod_documents/doc6500.pdf; ComponentLink3Description: SAM3S Series Summary; ComponentLink3URL: http://www.atmel.com/dyn/resources/prod_documents/6500s.pdf; ComponentLink4Description: Atmel.com Home; ComponentLink4URL: http://www.atmel.com
footprint QFN48_N (QFN, 48-Leads, Body 7x7mm, Pitch 0.5mm, IPC Medium Density)
footprint QFN48_L (QFN, 48-Leads, Body 7x7mm, Pitch 0.5mm, IPC High Density)
footprint QFN48_M (QFN, 48-Leads, Body 7x7mm, Pitch 0.5mm, IPC Low Density)
part A pins: 1 ADVREF (in), 3 PB0/AD4 (io), 4 PB1/AD5 (io), 5 PB2/AD6 (io), 6 PB3/AD7 (io), 7 VDDIN (power), 8 VDDOUT (power), 9 PA17/PGMD5/AD0 (io), 10 PA18/PGMD6/AD1 (io), 11 PA19/PGMD7/AD2 (io), 12 PA20/AD3 (io), 14 PA16/PGMD4 (io), 15 PA15/PGMD3 (io), 16 PA14/PGMD2 (io), 17 PA13/PGMD1 (io), 19 PA12/PGMD0 (io), 20 PA11/PGMM3 (io), 21 PA10/PGMM2 (io), 22 PA9/PGMM1 (io), 23 PA8/XOUT32/PGMM0 (io), 24 PA7/XIN32/PGMNVALID (io), 25 TDI/PB4 (io), 26 PA6/PGMNOE (io), 27 PA5/PGMRDY (io), 28 PA4/PGMNCMD (io), 29 NRST (io), 30 TST (in), 31 PA3 (io), 32 PA2/PGMEN2 (io), 35 PA1/PGMEN1 (io), 36 PA0/PGMEN0 (io), 37 TDO/TRACESWO/PB5 (io), 38 JTAGSEL (in), 39 TMS/SWDIO/PB6 (io), 40 TCK/SWCLK/PB7 (io), 42 ERASE/PB12 (io), 43 DDM/PB10 (io), 44 DDP/PB11 (io), 45 XOUT/PB8 (io), 46 XIN/PB9/PGMCK (io)
part B pins: 2 GND (power), 13 VDDIO (power), 18 VDDCORE (power), 33 VDDIO (power), 34 GND (power), 41 VDDCORE (power), 47 VDDIO (power), 48 VDDPLL (power), 49 DAP (power)

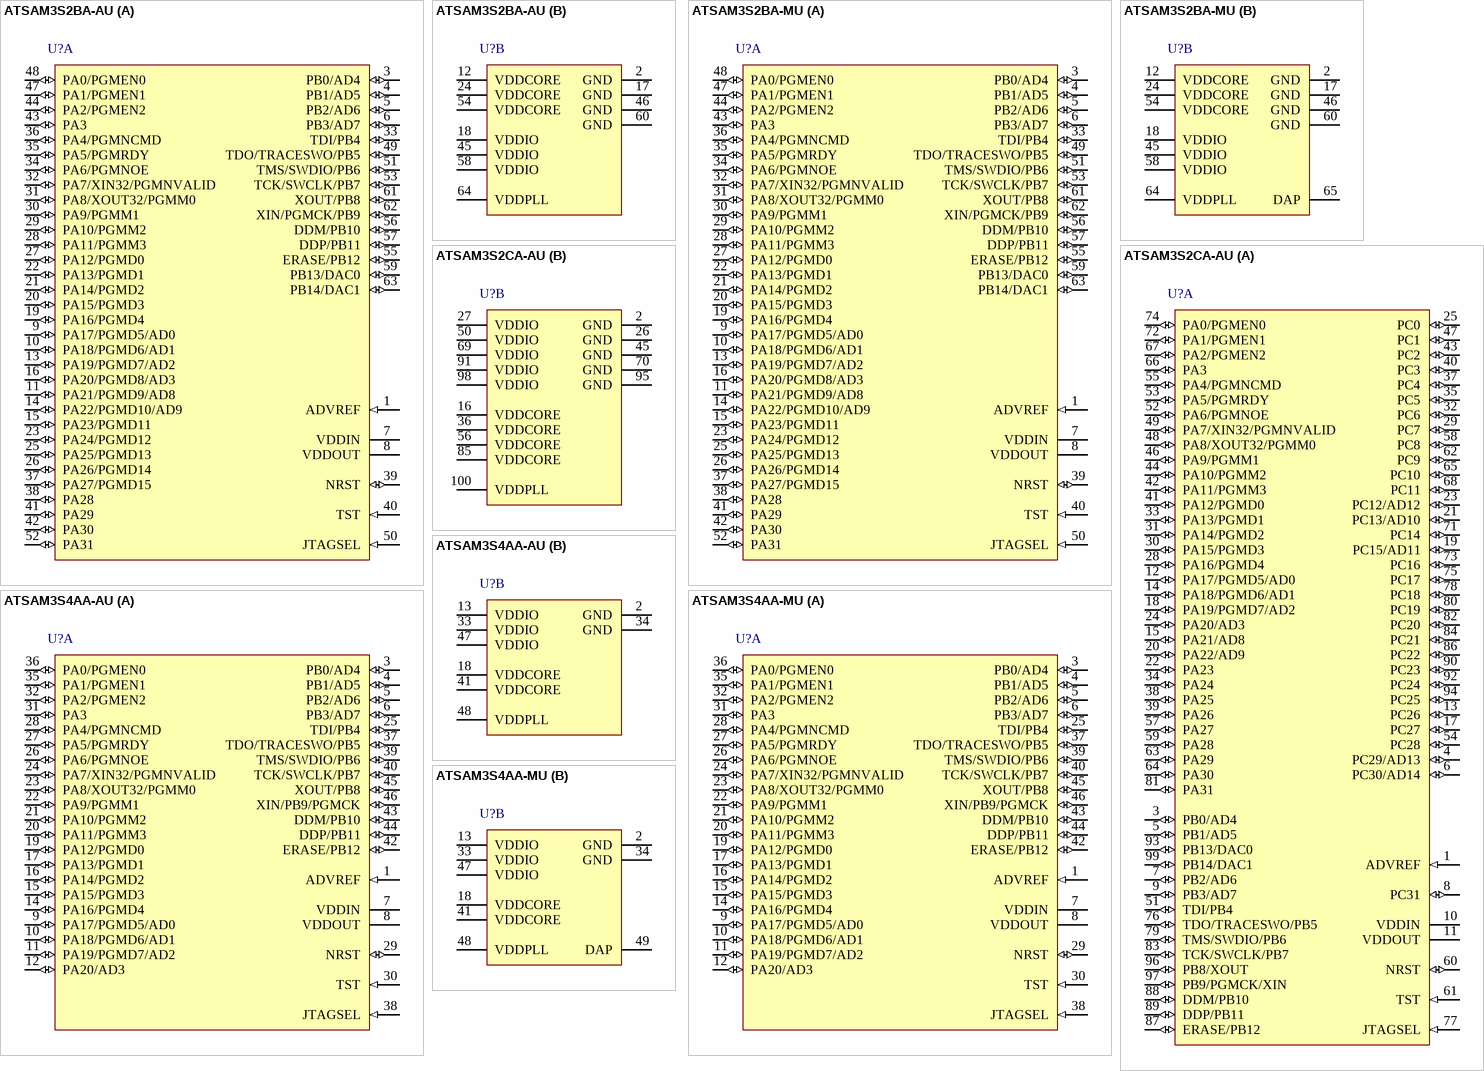
[diagram p48: symbols ATSAM3S2BA-AU to ATSAM3S4AA-MU]

## ATSAM3S2BA-AU
designator U?
AT91 ARM Cortex-M3 32-bit Microcontroller, 128KB Flash, 32KB ROM, 10-ch. ADC, 47 User I/Os, 64-Pin LQFP, Industrial Grade (-40°C to 85°C), Pb-Free; Published: 20-Sep-2010; DatasheetVersion: revA, Dec-2009; PackageVersion: Apr-2006; PackageReference: LQFP64; Publisher: Altium Limited; PackageDescription: 64-Pin Thin Quad Flat Pack 0.5 mm Pitch; Supplier 1: Digi-Key; Supplier Part Number 1: ATSAM3S2BA-AU-ND; Supplier 2: Mouser; Supplier Part Number 2: 556-ATSAM3S2BA-AU; Code_JEDEC: MS-026-BCD; ComponentLink1Description: Manufacturer Link; ComponentLink1URL: http://www.atmel.com/products/AT91/default.asp?; ComponentLink2Description: SAM3S Series Datasheet; ComponentLink2URL: http://www.atmel.com/dyn/resources/prod_documents/doc6500.pdf; ComponentLink3Description: SAM3S Series Summary; ComponentLink3URL: http://www.atmel.com/dyn/resources/prod_documents/6500s.pdf; ComponentLink4Description: Atmel.com Home; ComponentLink4URL: http://www.atmel.com
footprint LQFP64_N (Thin QFP, 64-Leads, Body 10x10mm, Pitch 0.5mm, IPC Medium Density)
footprint LQFP64_L (Thin QFP, 64-Leads, Body 10x10mm, Pitch 0.5mm, IPC High Density)
footprint LQFP64_M (Thin QFP, 64-Leads, Body 10x10mm, Pitch 0.5mm, IPC Low Density)
part A pins: 1 ADVREF (in), 3 PB0/AD4 (io), 4 PB1/AD5 (io), 5 PB2/AD6 (io), 6 PB3/AD7 (io), 7 VDDIN (power), 8 VDDOUT (power), 9 PA17/PGMD5/AD0 (io), 10 PA18/PGMD6/AD1 (io), 11 PA21/PGMD9/AD8 (io), 13 PA19/PGMD7/AD2 (io), 14 PA22/PGMD10/AD9 (io), 15 PA23/PGMD11 (io), 16 PA20/PGMD8/AD3 (io), 19 PA16/PGMD4 (io), 20 PA15/PGMD3 (io), 21 PA14/PGMD2 (io), 22 PA13/PGMD1 (io), 23 PA24/PGMD12 (io), 25 PA25/PGMD13 (io), 26 PA26/PGMD14 (io), 27 PA12/PGMD0 (io), 28 PA11/PGMM3 (io), 29 PA10/PGMM2 (io), 30 PA9/PGMM1 (io), 31 PA8/XOUT32/PGMM0 (io), 32 PA7/XIN32/PGMNVALID (io), 33 TDI/PB4 (io), 34 PA6/PGMNOE (io), 35 PA5/PGMRDY (io), 36 PA4/PGMNCMD (io), 37 PA27/PGMD15 (io), 38 PA28 (io), 39 NRST (io), 40 TST (in), 41 PA29 (io), 42 PA30 (io), 43 PA3 (io), 44 PA2/PGMEN2 (io), 47 PA1/PGMEN1 (io), 48 PA0/PGMEN0 (io), 49 TDO/TRACESWO/PB5 (io), 50 JTAGSEL (in), 51 TMS/SWDIO/PB6 (io), 52 PA31 (io), 53 TCK/SWCLK/PB7 (io), 55 ERASE/PB12 (io), 56 DDM/PB10 (io), 57 DDP/PB11 (io), 59 PB13/DAC0 (io), 61 XOUT/PB8 (io), 62 XIN/PGMCK/PB9 (io), 63 PB14/DAC1 (io)
part B pins: 2 GND (power), 12 VDDCORE (power), 17 GND (power), 18 VDDIO (power), 24 VDDCORE (power), 45 VDDIO (power), 46 GND (power), 54 VDDCORE (power), 58 VDDIO (power), 60 GND (power), 64 VDDPLL (power)

## ATSAM3S2BA-MU
designator U?
AT91 ARM Cortex-M3 32-bit Microcontroller, 128KB Flash, 32KB ROM, 10-ch. ADC, 47 User I/Os, 64-Pin QFN, Industrial Grade (-40°C to 85°C), Pb-Free; Published: 20-Sep-2010; DatasheetVersion: revA, Dec-2009; PackageVersion: Apr-2006; PackageReference: QFN64; Publisher: Altium Limited; PackageDescription: 64-Pin Quad Flat No-Lead 0.5 mm Pitch; Supplier 1: Digi-Key; Supplier Part Number 1: ATSAM3S2BA-MU-ND; Supplier 2: Mouser; Supplier Part Number 2: 556-ATSAM3S2BA-MU; Code_JEDEC: MO-220; ComponentLink1Description: Manufacturer Link; ComponentLink1URL: http://www.atmel.com/products/AT91/default.asp?; ComponentLink2Description: SAM3S Series Datasheet; ComponentLink2URL: http://www.atmel.com/dyn/resources/prod_documents/doc6500.pdf; ComponentLink3Description: SAM3S Series Summary; ComponentLink3URL: http://www.atmel.com/dyn/resources/prod_documents/6500s.pdf; ComponentLink4Description: Atmel.com Home; ComponentLink4URL: http://www.atmel.com
footprint QFN64_N (QFN, 64-Leads, Body 9x9mm, Pitch 0.5mm, IPC Medium Density)
footprint QFN64_L (QFN, 64-Leads, Body 9x9mm, Pitch 0.5mm, IPC High Density)
footprint QFN64_M (QFN, 64-Leads, Body 9x9mm, Pitch 0.5mm, IPC Low Density)
part A pins: 1 ADVREF (in), 3 PB0/AD4 (io), 4 PB1/AD5 (io), 5 PB2/AD6 (io), 6 PB3/AD7 (io), 7 VDDIN (power), 8 VDDOUT (power), 9 PA17/PGMD5/AD0 (io), 10 PA18/PGMD6/AD1 (io), 11 PA21/PGMD9/AD8 (io), 13 PA19/PGMD7/AD2 (io), 14 PA22/PGMD10/AD9 (io), 15 PA23/PGMD11 (io), 16 PA20/PGMD8/AD3 (io), 19 PA16/PGMD4 (io), 20 PA15/PGMD3 (io), 21 PA14/PGMD2 (io), 22 PA13/PGMD1 (io), 23 PA24/PGMD12 (io), 25 PA25/PGMD13 (io), 26 PA26/PGMD14 (io), 27 PA12/PGMD0 (io), 28 PA11/PGMM3 (io), 29 PA10/PGMM2 (io), 30 PA9/PGMM1 (io), 31 PA8/XOUT32/PGMM0 (io), 32 PA7/XIN32/PGMNVALID (io), 33 TDI/PB4 (io), 34 PA6/PGMNOE (io), 35 PA5/PGMRDY (io), 36 PA4/PGMNCMD (io), 37 PA27/PGMD15 (io), 38 PA28 (io), 39 NRST (io), 40 TST (in), 41 PA29 (io), 42 PA30 (io), 43 PA3 (io), 44 PA2/PGMEN2 (io), 47 PA1/PGMEN1 (io), 48 PA0/PGMEN0 (io), 49 TDO/TRACESWO/PB5 (io), 50 JTAGSEL (in), 51 TMS/SWDIO/PB6 (io), 52 PA31 (io), 53 TCK/SWCLK/PB7 (io), 55 ERASE/PB12 (io), 56 DDM/PB10 (io), 57 DDP/PB11 (io), 59 PB13/DAC0 (io), 61 XOUT/PB8 (io), 62 XIN/PGMCK/PB9 (io), 63 PB14/DAC1 (io)
part B pins: 2 GND (power), 12 VDDCORE (power), 17 GND (power), 18 VDDIO (power), 24 VDDCORE (power), 45 VDDIO (power), 46 GND (power), 54 VDDCORE (power), 58 VDDIO (power), 60 GND (power), 64 VDDPLL (power), 65 DAP (power)

## ATSAM3S2CA-AU
designator U?
AT91 ARM Cortex-M3 32-bit Microcontroller, 128KB Flash, 32KB ROM, EBI, 16-ch. ADC, 79 User I/Os, 100-Pin LQFP, Industrial Grade (-40°C to 85°C), Pb-Free; Published: 20-Sep-2010; DatasheetVersion: revA, Dec-2009; PackageVersion: Apr-2006; PackageReference: LQFP100; Publisher: Altium Limited; PackageDescription: 100-Pin Thin Quad Flat Pack 0.5 mm Pitch; Supplier 1: Digi-Key; Supplier Part Number 1: ATSAM3S2CA-AU-ND; Supplier 2: Mouser; Supplier Part Number 2: 556-ATSAM3S2CA-AU; Code_JEDEC: MS-026-BED; ComponentLink1Description: Manufacturer Link; ComponentLink1URL: http://www.atmel.com/products/AT91/default.asp?; ComponentLink2Description: SAM3S Series Datasheet; ComponentLink2URL: http://www.atmel.com/dyn/resources/prod_documents/doc6500.pdf; ComponentLink3Description: SAM3S Series Summary; ComponentLink3URL: http://www.atmel.com/dyn/resources/prod_documents/6500s.pdf; ComponentLink4Description: Atmel.com Home; ComponentLink4URL: http://www.atmel.com
footprint LQFP100_N (Thin QFP, 100-Leads, Body 14x14mm, Pitch 0.5mm, IPC Medium Density)
footprint LQFP100_L (Thin QFP, 100-Leads, Body 14x14mm, Pitch 0.5mm, IPC High Density)
footprint LQFP100_M (Thin QFP, 100-Leads, Body 14x14mm, Pitch 0.5mm, IPC Low Density)
part A pins: 1 ADVREF (in), 3 PB0/AD4 (io), 4 PC29/AD13 (io), 5 PB1/AD5 (io), 6 PC30/AD14 (io), 7 PB2/AD6 (io), 8 PC31 (io), 9 PB3/AD7 (io), 10 VDDIN (power), 11 VDDOUT (power), 12 PA17/PGMD5/AD0 (io), 13 PC26 (io), 14 PA18/PGMD6/AD1 (io), 15 PA21/AD8 (io), 17 PC27 (io), 18 PA19/PGMD7/AD2 (io), 19 PC15/AD11 (io), 20 PA22/AD9 (io), 21 PC13/AD10 (io), 22 PA23 (io), 23 PC12/AD12 (io), 24 PA20/AD3 (io), 25 PC0 (io), 28 PA16/PGMD4 (io), 29 PC7 (io), 30 PA15/PGMD3 (io), 31 PA14/PGMD2 (io), 32 PC6 (io), 33 PA13/PGMD1 (io), 34 PA24 (io), 35 PC5 (io), 37 PC4 (io), 38 PA25 (io), 39 PA26 (io), 40 PC3 (io), 41 PA12/PGMD0 (io), 42 PA11/PGMM3 (io), 43 PC2 (io), 44 PA10/PGMM2 (io), 46 PA9/PGMM1 (io), 47 PC1 (io), 48 PA8/XOUT32/PGMM0 (io), 49 PA7/XIN32/PGMNVALID (io), 51 TDI/PB4 (io), 52 PA6/PGMNOE (io), 53 PA5/PGMRDY (io), 54 PC28 (io), 55 PA4/PGMNCMD (io), 57 PA27 (io), 58 PC8 (io), 59 PA28 (io), 60 NRST (io), 61 TST (in), 62 PC9 (io), 63 PA29 (io), 64 PA30 (io), 65 PC10 (io), 66 PA3 (io), 67 PA2/PGMEN2 (io), 68 PC11 (io), 71 PC14 (io), 72 PA1/PGMEN1 (io), 73 PC16 (io), 74 PA0/PGMEN0 (io), 75 PC17 (io), 76 TDO/TRACESWO/PB5 (io), 77 JTAGSEL (in), 78 PC18 (io), 79 TMS/SWDIO/PB6 (io), 80 PC19 (io), 81 PA31 (io), 82 PC20 (io), 83 TCK/SWCLK/PB7 (io), 84 PC21 (io), 86 PC22 (io), 87 ERASE/PB12 (io), 88 DDM/PB10 (io), 89 DDP/PB11 (io), 90 PC23 (io), 92 PC24 (io), 93 PB13/DAC0 (io), 94 PC25 (io), 96 PB8/XOUT (io), 97 PB9/PGMCK/XIN (io), 99 PB14/DAC1 (io)
part B pins: 2 GND (power), 16 VDDCORE (power), 26 GND (power), 27 VDDIO (power), 36 VDDCORE (power), 45 GND (power), 50 VDDIO (power), 56 VDDCORE (power), 69 VDDIO (power), 70 GND (power), 85 VDDCORE (power), 91 VDDIO (power), 95 GND (power), 98 VDDIO (power), 100 VDDPLL (power)

## ATSAM3S4AA-AU
designator U?
AT91 ARM Cortex-M3 32-bit Microcontroller, 256KB Flash, 48KB ROM, 8-ch. ADC, 34 User I/Os, 48-Pin LQFP, Industrial Grade (-40°C to 85°C), Pb-Free; Published: 20-Sep-2010; DatasheetVersion: revA, Dec-2009; PackageVersion: revC, Oct-2001; PackageReference: 48AA; Publisher: Altium Limited; PackageDescription: 48-Pin Plastic Low Profile Quad Flat Pack (LQFP), 7 x 7 x 1.4 mm Body, 0.5 mm Pitch; Supplier 1: Digi-Key; Supplier Part Number 1: ATSAM3S4AA-AU-ND; Supplier 2: Mouser; Supplier Part Number 2: 556-ATSAM3S4AA-AU; Code_JEDEC: MS-026-BBC; ComponentLink1Description: Manufacturer Link; ComponentLink1URL: http://www.atmel.com/products/AT91/default.asp?; ComponentLink2Description: SAM3S Series Datasheet; ComponentLink2URL: http://www.atmel.com/dyn/resources/prod_documents/doc6500.pdf; ComponentLink3Description: SAM3S Series Summary; ComponentLink3URL: http://www.atmel.com/dyn/resources/prod_documents/6500s.pdf; ComponentLink4Description: Atmel.com Home; ComponentLink4URL: http://www.atmel.com
footprint 48AA_N (Thin QFP, 48-Leads, Body 7x7mm, Pitch 0.5mm, IPC Medium Density)
footprint 48AA_L (Thin QFP, 48-Leads, Body 7x7mm, Pitch 0.5mm, IPC High Density)
footprint 48AA_M (Thin QFP, 48-Leads, Body 7x7mm, Pitch 0.5mm, IPC Low Density)
part A pins: 1 ADVREF (in), 3 PB0/AD4 (io), 4 PB1/AD5 (io), 5 PB2/AD6 (io), 6 PB3/AD7 (io), 7 VDDIN (power), 8 VDDOUT (power), 9 PA17/PGMD5/AD0 (io), 10 PA18/PGMD6/AD1 (io), 11 PA19/PGMD7/AD2 (io), 12 PA20/AD3 (io), 14 PA16/PGMD4 (io), 15 PA15/PGMD3 (io), 16 PA14/PGMD2 (io), 17 PA13/PGMD1 (io), 19 PA12/PGMD0 (io), 20 PA11/PGMM3 (io), 21 PA10/PGMM2 (io), 22 PA9/PGMM1 (io), 23 PA8/XOUT32/PGMM0 (io), 24 PA7/XIN32/PGMNVALID (io), 25 TDI/PB4 (io), 26 PA6/PGMNOE (io), 27 PA5/PGMRDY (io), 28 PA4/PGMNCMD (io), 29 NRST (io), 30 TST (in), 31 PA3 (io), 32 PA2/PGMEN2 (io), 35 PA1/PGMEN1 (io), 36 PA0/PGMEN0 (io), 37 TDO/TRACESWO/PB5 (io), 38 JTAGSEL (in), 39 TMS/SWDIO/PB6 (io), 40 TCK/SWCLK/PB7 (io), 42 ERASE/PB12 (io), 43 DDM/PB10 (io), 44 DDP/PB11 (io), 45 XOUT/PB8 (io), 46 XIN/PB9/PGMCK (io)
part B pins: 2 GND (power), 13 VDDIO (power), 18 VDDCORE (power), 33 VDDIO (power), 34 GND (power), 41 VDDCORE (power), 47 VDDIO (power), 48 VDDPLL (power)

## ATSAM3S4AA-MU
designator U?
AT91 ARM Cortex-M3 32-bit Microcontroller, 256KB Flash, 48KB ROM, 8-ch. ADC, 34 User I/Os, 48-Pin QFN, Industrial Grade (-40°C to 85°C), Pb-Free; Published: 20-Sep-2010; DatasheetVersion: revA, Dec-2009; PackageVersion: Apr-2006; PackageReference: QFN48; Publisher: Altium Limited; PackageDescription: 48-Pin Quad Flat No-Lead 0.5 mm Pitch; Supplier 1: Digi-Key; Supplier Part Number 1: ATSAM3S4AA-MU-ND; Supplier 2: Mouser; Supplier Part Number 2: 556-ATSAM3S4AA-MU; ComponentLink1Description: Manufacturer Link; ComponentLink1URL: http://www.atmel.com/products/AT91/default.asp?; ComponentLink2Description: SAM3S Series Datasheet; ComponentLink2URL: http://www.atmel.com/dyn/resources/prod_documents/doc6500.pdf; ComponentLink3Description: SAM3S Series Summary; ComponentLink3URL: http://www.atmel.com/dyn/resources/prod_documents/6500s.pdf; ComponentLink4Description: Atmel.com Home; ComponentLink4URL: http://www.atmel.com
footprint QFN48_N (QFN, 48-Leads, Body 7x7mm, Pitch 0.5mm, IPC Medium Density)
footprint QFN48_L (QFN, 48-Leads, Body 7x7mm, Pitch 0.5mm, IPC High Density)
footprint QFN48_M (QFN, 48-Leads, Body 7x7mm, Pitch 0.5mm, IPC Low Density)
part A pins: 1 ADVREF (in), 3 PB0/AD4 (io), 4 PB1/AD5 (io), 5 PB2/AD6 (io), 6 PB3/AD7 (io), 7 VDDIN (power), 8 VDDOUT (power), 9 PA17/PGMD5/AD0 (io), 10 PA18/PGMD6/AD1 (io), 11 PA19/PGMD7/AD2 (io), 12 PA20/AD3 (io), 14 PA16/PGMD4 (io), 15 PA15/PGMD3 (io), 16 PA14/PGMD2 (io), 17 PA13/PGMD1 (io), 19 PA12/PGMD0 (io), 20 PA11/PGMM3 (io), 21 PA10/PGMM2 (io), 22 PA9/PGMM1 (io), 23 PA8/XOUT32/PGMM0 (io), 24 PA7/XIN32/PGMNVALID (io), 25 TDI/PB4 (io), 26 PA6/PGMNOE (io), 27 PA5/PGMRDY (io), 28 PA4/PGMNCMD (io), 29 NRST (io), 30 TST (in), 31 PA3 (io), 32 PA2/PGMEN2 (io), 35 PA1/PGMEN1 (io), 36 PA0/PGMEN0 (io), 37 TDO/TRACESWO/PB5 (io), 38 JTAGSEL (in), 39 TMS/SWDIO/PB6 (io), 40 TCK/SWCLK/PB7 (io), 42 ERASE/PB12 (io), 43 DDM/PB10 (io), 44 DDP/PB11 (io), 45 XOUT/PB8 (io), 46 XIN/PB9/PGMCK (io)
part B pins: 2 GND (power), 13 VDDIO (power), 18 VDDCORE (power), 33 VDDIO (power), 34 GND (power), 41 VDDCORE (power), 47 VDDIO (power), 48 VDDPLL (power), 49 DAP (power)

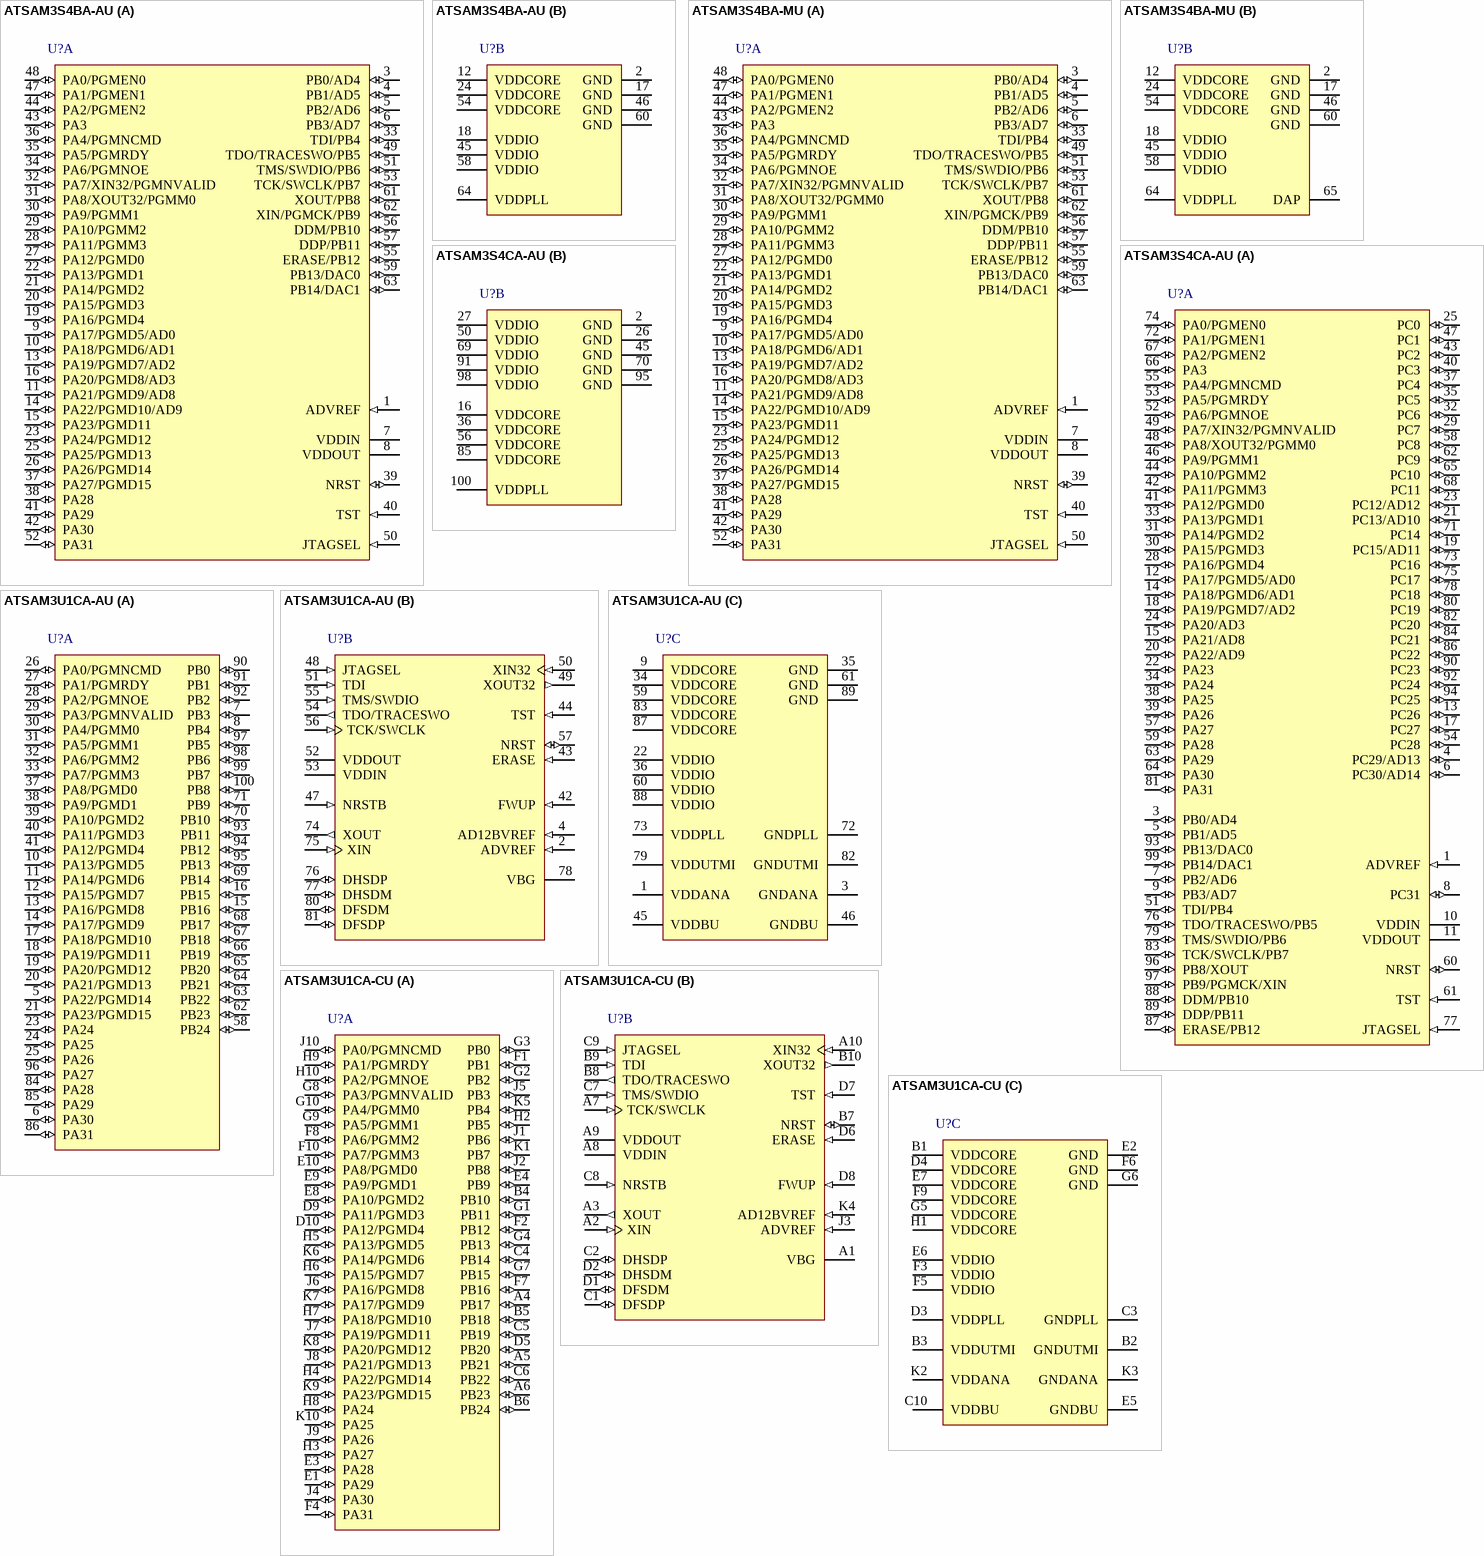
[diagram p49: symbols ATSAM3S4BA-AU to ATSAM3U1CA-CU]

## ATSAM3S4BA-AU
designator U?
AT91 ARM Cortex-M3 32-bit Microcontroller, 256KB Flash, 48KB ROM, 10-ch. ADC, 47 User I/Os, 64-Pin LQFP, Industrial Grade (-40°C to 85°C), Pb-Free; Published: 20-Sep-2010; DatasheetVersion: revA, Dec-2009; PackageVersion: Apr-2006; PackageReference: LQFP64; Publisher: Altium Limited; PackageDescription: 64-Pin Thin Quad Flat Pack 0.5 mm Pitch; Supplier 1: Digi-Key; Supplier Part Number 1: ATSAM3S4BA-AU-ND; Supplier 2: Mouser; Supplier Part Number 2: 556-ATSAM3S4BA-AU; Code_JEDEC: MS-026-BCD; ComponentLink1Description: Manufacturer Link; ComponentLink1URL: http://www.atmel.com/products/AT91/default.asp?; ComponentLink2Description: SAM3S Series Datasheet; ComponentLink2URL: http://www.atmel.com/dyn/resources/prod_documents/doc6500.pdf; ComponentLink3Description: SAM3S Series Summary; ComponentLink3URL: http://www.atmel.com/dyn/resources/prod_documents/6500s.pdf; ComponentLink4Description: Atmel.com Home; ComponentLink4URL: http://www.atmel.com
footprint LQFP64_N (Thin QFP, 64-Leads, Body 10x10mm, Pitch 0.5mm, IPC Medium Density)
footprint LQFP64_L (Thin QFP, 64-Leads, Body 10x10mm, Pitch 0.5mm, IPC High Density)
footprint LQFP64_M (Thin QFP, 64-Leads, Body 10x10mm, Pitch 0.5mm, IPC Low Density)
part A pins: 1 ADVREF (in), 3 PB0/AD4 (io), 4 PB1/AD5 (io), 5 PB2/AD6 (io), 6 PB3/AD7 (io), 7 VDDIN (power), 8 VDDOUT (power), 9 PA17/PGMD5/AD0 (io), 10 PA18/PGMD6/AD1 (io), 11 PA21/PGMD9/AD8 (io), 13 PA19/PGMD7/AD2 (io), 14 PA22/PGMD10/AD9 (io), 15 PA23/PGMD11 (io), 16 PA20/PGMD8/AD3 (io), 19 PA16/PGMD4 (io), 20 PA15/PGMD3 (io), 21 PA14/PGMD2 (io), 22 PA13/PGMD1 (io), 23 PA24/PGMD12 (io), 25 PA25/PGMD13 (io), 26 PA26/PGMD14 (io), 27 PA12/PGMD0 (io), 28 PA11/PGMM3 (io), 29 PA10/PGMM2 (io), 30 PA9/PGMM1 (io), 31 PA8/XOUT32/PGMM0 (io), 32 PA7/XIN32/PGMNVALID (io), 33 TDI/PB4 (io), 34 PA6/PGMNOE (io), 35 PA5/PGMRDY (io), 36 PA4/PGMNCMD (io), 37 PA27/PGMD15 (io), 38 PA28 (io), 39 NRST (io), 40 TST (in), 41 PA29 (io), 42 PA30 (io), 43 PA3 (io), 44 PA2/PGMEN2 (io), 47 PA1/PGMEN1 (io), 48 PA0/PGMEN0 (io), 49 TDO/TRACESWO/PB5 (io), 50 JTAGSEL (in), 51 TMS/SWDIO/PB6 (io), 52 PA31 (io), 53 TCK/SWCLK/PB7 (io), 55 ERASE/PB12 (io), 56 DDM/PB10 (io), 57 DDP/PB11 (io), 59 PB13/DAC0 (io), 61 XOUT/PB8 (io), 62 XIN/PGMCK/PB9 (io), 63 PB14/DAC1 (io)
part B pins: 2 GND (power), 12 VDDCORE (power), 17 GND (power), 18 VDDIO (power), 24 VDDCORE (power), 45 VDDIO (power), 46 GND (power), 54 VDDCORE (power), 58 VDDIO (power), 60 GND (power), 64 VDDPLL (power)

## ATSAM3S4BA-MU
designator U?
AT91 ARM Cortex-M3 32-bit Microcontroller, 256KB Flash, 48KB ROM, 10-ch. ADC, 47 User I/Os, 64-Pin QFN, Industrial Grade (-40°C to 85°C), Pb-Free; Published: 20-Sep-2010; DatasheetVersion: revA, Dec-2009; PackageVersion: Apr-2006; PackageReference: QFN64; Publisher: Altium Limited; PackageDescription: 64-Pin Quad Flat No-Lead 0.5 mm Pitch; Supplier 1: Digi-Key; Supplier Part Number 1: ATSAM3S4BA-MU-ND; Supplier 2: Mouser; Supplier Part Number 2: 556-ATSAM3S4BA-MU; Code_JEDEC: MO-220; ComponentLink1Description: Manufacturer Link; ComponentLink1URL: http://www.atmel.com/products/AT91/default.asp?; ComponentLink2Description: SAM3S Series Datasheet; ComponentLink2URL: http://www.atmel.com/dyn/resources/prod_documents/doc6500.pdf; ComponentLink3Description: SAM3S Series Summary; ComponentLink3URL: http://www.atmel.com/dyn/resources/prod_documents/6500s.pdf; ComponentLink4Description: Atmel.com Home; ComponentLink4URL: http://www.atmel.com
footprint QFN64_N (QFN, 64-Leads, Body 9x9mm, Pitch 0.5mm, IPC Medium Density)
footprint QFN64_L (QFN, 64-Leads, Body 9x9mm, Pitch 0.5mm, IPC High Density)
footprint QFN64_M (QFN, 64-Leads, Body 9x9mm, Pitch 0.5mm, IPC Low Density)
part A pins: 1 ADVREF (in), 3 PB0/AD4 (io), 4 PB1/AD5 (io), 5 PB2/AD6 (io), 6 PB3/AD7 (io), 7 VDDIN (power), 8 VDDOUT (power), 9 PA17/PGMD5/AD0 (io), 10 PA18/PGMD6/AD1 (io), 11 PA21/PGMD9/AD8 (io), 13 PA19/PGMD7/AD2 (io), 14 PA22/PGMD10/AD9 (io), 15 PA23/PGMD11 (io), 16 PA20/PGMD8/AD3 (io), 19 PA16/PGMD4 (io), 20 PA15/PGMD3 (io), 21 PA14/PGMD2 (io), 22 PA13/PGMD1 (io), 23 PA24/PGMD12 (io), 25 PA25/PGMD13 (io), 26 PA26/PGMD14 (io), 27 PA12/PGMD0 (io), 28 PA11/PGMM3 (io), 29 PA10/PGMM2 (io), 30 PA9/PGMM1 (io), 31 PA8/XOUT32/PGMM0 (io), 32 PA7/XIN32/PGMNVALID (io), 33 TDI/PB4 (io), 34 PA6/PGMNOE (io), 35 PA5/PGMRDY (io), 36 PA4/PGMNCMD (io), 37 PA27/PGMD15 (io), 38 PA28 (io), 39 NRST (io), 40 TST (in), 41 PA29 (io), 42 PA30 (io), 43 PA3 (io), 44 PA2/PGMEN2 (io), 47 PA1/PGMEN1 (io), 48 PA0/PGMEN0 (io), 49 TDO/TRACESWO/PB5 (io), 50 JTAGSEL (in), 51 TMS/SWDIO/PB6 (io), 52 PA31 (io), 53 TCK/SWCLK/PB7 (io), 55 ERASE/PB12 (io), 56 DDM/PB10 (io), 57 DDP/PB11 (io), 59 PB13/DAC0 (io), 61 XOUT/PB8 (io), 62 XIN/PGMCK/PB9 (io), 63 PB14/DAC1 (io)
part B pins: 2 GND (power), 12 VDDCORE (power), 17 GND (power), 18 VDDIO (power), 24 VDDCORE (power), 45 VDDIO (power), 46 GND (power), 54 VDDCORE (power), 58 VDDIO (power), 60 GND (power), 64 VDDPLL (power), 65 DAP (power)

## ATSAM3S4CA-AU
designator U?
AT91 ARM Cortex-M3 32-bit Microcontroller, 256KB Flash, 48KB ROM, EBI, 16-ch. ADC, 79 User I/Os, 100-Pin LQFP, Industrial Grade (-40°C to 85°C), Pb-Free; Published: 20-Sep-2010; DatasheetVersion: revA, Dec-2009; PackageVersion: Apr-2006; PackageReference: LQFP100; Publisher: Altium Limited; PackageDescription: 100-Pin Thin Quad Flat Pack 0.5 mm Pitch; Supplier 1: Digi-Key; Supplier Part Number 1: ATSAM3S4CA-AU-ND; Supplier 2: Mouser; Supplier Part Number 2: 556-ATSAM3S4CA-AU; Code_JEDEC: MS-026-BED; ComponentLink1Description: Manufacturer Link; ComponentLink1URL: http://www.atmel.com/products/AT91/default.asp?; ComponentLink2Description: SAM3S Series Datasheet; ComponentLink2URL: http://www.atmel.com/dyn/resources/prod_documents/doc6500.pdf; ComponentLink3Description: SAM3S Series Summary; ComponentLink3URL: http://www.atmel.com/dyn/resources/prod_documents/6500s.pdf; ComponentLink4Description: Atmel.com Home; ComponentLink4URL: http://www.atmel.com
footprint LQFP100_N (Thin QFP, 100-Leads, Body 14x14mm, Pitch 0.5mm, IPC Medium Density)
footprint LQFP100_L (Thin QFP, 100-Leads, Body 14x14mm, Pitch 0.5mm, IPC High Density)
footprint LQFP100_M (Thin QFP, 100-Leads, Body 14x14mm, Pitch 0.5mm, IPC Low Density)
part A pins: 1 ADVREF (in), 3 PB0/AD4 (io), 4 PC29/AD13 (io), 5 PB1/AD5 (io), 6 PC30/AD14 (io), 7 PB2/AD6 (io), 8 PC31 (io), 9 PB3/AD7 (io), 10 VDDIN (power), 11 VDDOUT (power), 12 PA17/PGMD5/AD0 (io), 13 PC26 (io), 14 PA18/PGMD6/AD1 (io), 15 PA21/AD8 (io), 17 PC27 (io), 18 PA19/PGMD7/AD2 (io), 19 PC15/AD11 (io), 20 PA22/AD9 (io), 21 PC13/AD10 (io), 22 PA23 (io), 23 PC12/AD12 (io), 24 PA20/AD3 (io), 25 PC0 (io), 28 PA16/PGMD4 (io), 29 PC7 (io), 30 PA15/PGMD3 (io), 31 PA14/PGMD2 (io), 32 PC6 (io), 33 PA13/PGMD1 (io), 34 PA24 (io), 35 PC5 (io), 37 PC4 (io), 38 PA25 (io), 39 PA26 (io), 40 PC3 (io), 41 PA12/PGMD0 (io), 42 PA11/PGMM3 (io), 43 PC2 (io), 44 PA10/PGMM2 (io), 46 PA9/PGMM1 (io), 47 PC1 (io), 48 PA8/XOUT32/PGMM0 (io), 49 PA7/XIN32/PGMNVALID (io), 51 TDI/PB4 (io), 52 PA6/PGMNOE (io), 53 PA5/PGMRDY (io), 54 PC28 (io), 55 PA4/PGMNCMD (io), 57 PA27 (io), 58 PC8 (io), 59 PA28 (io), 60 NRST (io), 61 TST (in), 62 PC9 (io), 63 PA29 (io), 64 PA30 (io), 65 PC10 (io), 66 PA3 (io), 67 PA2/PGMEN2 (io), 68 PC11 (io), 71 PC14 (io), 72 PA1/PGMEN1 (io), 73 PC16 (io), 74 PA0/PGMEN0 (io), 75 PC17 (io), 76 TDO/TRACESWO/PB5 (io), 77 JTAGSEL (in), 78 PC18 (io), 79 TMS/SWDIO/PB6 (io), 80 PC19 (io), 81 PA31 (io), 82 PC20 (io), 83 TCK/SWCLK/PB7 (io), 84 PC21 (io), 86 PC22 (io), 87 ERASE/PB12 (io), 88 DDM/PB10 (io), 89 DDP/PB11 (io), 90 PC23 (io), 92 PC24 (io), 93 PB13/DAC0 (io), 94 PC25 (io), 96 PB8/XOUT (io), 97 PB9/PGMCK/XIN (io), 99 PB14/DAC1 (io)
part B pins: 2 GND (power), 16 VDDCORE (power), 26 GND (power), 27 VDDIO (power), 36 VDDCORE (power), 45 GND (power), 50 VDDIO (power), 56 VDDCORE (power), 69 VDDIO (power), 70 GND (power), 85 VDDCORE (power), 91 VDDIO (power), 95 GND (power), 98 VDDIO (power), 100 VDDPLL (power)

## ATSAM3U1CA-AU
designator U?
AT91 ARM Cortex-M3 32-bit Microcontroller, 64KB Flash, 20KB SRAM, 57 User I/Os, 3USARTs, 100-Pin LQFP, Industrial Grade (-40°C to 85°C), Pb-Free; Published: 20-Sep-2010; DatasheetVersion: revC, Apr-2010; PackageVersion: Apr-2006; PackageReference: LQFP100; Publisher: Altium Limited; PackageDescription: 100-Pin Thin Quad Flat Pack 0.5 mm Pitch; Supplier 1: Digi-Key; Supplier Part Number 1: ATSAM3U1CA-AU-ND; Supplier 2: Mouser; Supplier Part Number 2: 556-ATSAM3U1CA-AU; Code_JEDEC: MS-026-BED; ComponentLink1Description: Manufacturer Link; ComponentLink1URL: http://www.atmel.com/products/AT91/default.asp?; ComponentLink2Description: SAM3U Series Datasheet; ComponentLink2URL: http://www.atmel.com/dyn/resources/prod_documents/doc6430.pdf; ComponentLink3Description: SAM3U Series Summary; ComponentLink3URL: http://www.atmel.com/dyn/resources/prod_documents/6430s.pdf; ComponentLink4Description: Atmel.com Home; ComponentLink4URL: http://www.atmel.com
footprint LQFP100_N (Thin QFP, 100-Leads, Body 14x14mm, Pitch 0.5mm, IPC Medium Density)
footprint LQFP100_L (Thin QFP, 100-Leads, Body 14x14mm, Pitch 0.5mm, IPC High Density)
footprint LQFP100_M (Thin QFP, 100-Leads, Body 14x14mm, Pitch 0.5mm, IPC Low Density)
part A pins: 5 PA22/PGMD14 (io), 6 PA30 (io), 7 PB3 (io), 8 PB4 (io), 10 PA13/PGMD5 (io), 11 PA14/PGMD6 (io), 12 PA15/PGMD7 (io), 13 PA16/PGMD8 (io), 14 PA17/PGMD9 (io), 15 PB16 (io), 16 PB15 (io), 17 PA18/PGMD10 (io), 18 PA19/PGMD11 (io), 19 PA20/PGMD12 (io), 20 PA21/PGMD13 (io), 21 PA23/PGMD15 (io), 23 PA24 (io), 24 PA25 (io), 25 PA26 (io), 26 PA0/PGMNCMD (io), 27 PA1/PGMRDY (io), 28 PA2/PGMNOE (io), 29 PA3/PGMNVALID (io), 30 PA4/PGMM0 (io), 31 PA5/PGMM1 (io), 32 PA6/PGMM2 (io), 33 PA7/PGMM3 (io), 37 PA8/PGMD0 (io), 38 PA9/PGMD1 (io), 39 PA10/PGMD2 (io), 40 PA11/PGMD3 (io), 41 PA12/PGMD4 (io), 58 PB24 (io), 62 PB23 (io), 63 PB22 (io), 64 PB21 (io), 65 PB20 (io), 66 PB19 (io), 67 PB18 (io), 68 PB17 (io), 69 PB14 (io), 70 PB10 (io), 71 PB9 (io), 84 PA28 (io), 85 PA29 (io), 86 PA31 (io), 90 PB0 (io), 91 PB1 (io), 92 PB2 (io), 93 PB11 (io), 94 PB12 (io), 95 PB13 (io), 96 PA27 (io), 97 PB5 (io), 98 PB6 (io), 99 PB7 (io), 100 PB8 (io)
part B pins: 2 ADVREF (in), 4 AD12BVREF (in), 42 FWUP (in), 43 ERASE (in), 44 TST (in), 47 NRSTB (in), 48 JTAGSEL (in), 49 XOUT32 (out), 50 XIN32 (in), 51 TDI (in), 52 VDDOUT (power), 53 VDDIN (power), 54 TDO/TRACESWO (out), 55 TMS/SWDIO (in), 56 TCK/SWCLK (in), 57 NRST (io), 74 XOUT (out), 75 XIN (in), 76 DHSDP (io), 77 DHSDM (io), 78 VBG, 80 DFSDM (io), 81 DFSDP (io)
part C pins: 1 VDDANA (power), 3 GNDANA (power), 9 VDDCORE (power), 22 VDDIO (power), 34 VDDCORE (power), 35 GND (power), 36 VDDIO (power), 45 VDDBU (power), 46 GNDBU (power), 59 VDDCORE (power), 60 VDDIO (power), 61 GND (power), 72 GNDPLL (power), 73 VDDPLL (power), 79 VDDUTMI (power), 82 GNDUTMI (power), 83 VDDCORE (power), 87 VDDCORE (power), 88 VDDIO (power), 89 GND (power)